# EAGLE library part POLOLU_A-STAR-MICRO (library will)
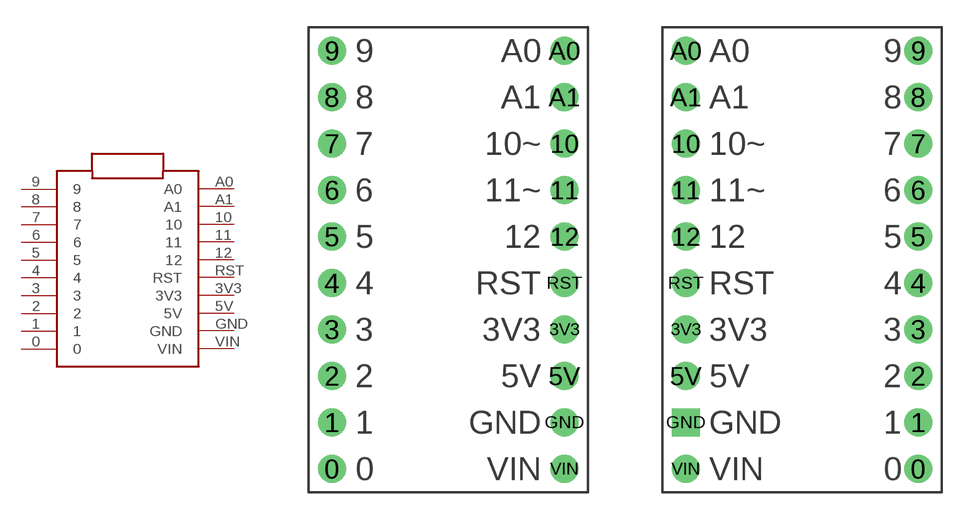
[diagram p1: symbol with the pads of POLOLU_A-STAR-MICRO; footprints POLOLU_A-STAR-MICRO, POLOLU_A-STAR-MICRO_MIRROR]

Designator prefix -

## POLOLU_A-STAR-MICRO  [POLOLU_A-STAR-MICRO]
0  0
1  1
2  2
3  3
3V3  3V3
4  4
5  5
5V  5V
6  6
7  7
8  8
9  9
10  10
11  11
12  12
A0  A0
A1  A1
GND  GND
RST  RST
VIN  VIN

## POLOLU_A-STAR-MICROMIRROR  [POLOLU_A-STAR-MICRO_MIRROR]
Pads as for POLOLU_A-STAR-MICRO

## Footprint POLOLU_A-STAR-MICRO (pad centres in mm)
drill 0.8 pad 1.524: 0 -6.35,-12.7; 1 -6.35,-10.16; 2 -6.35,-7.62; 3 -6.35,-5.08; 3V3 6.35,-5.08; 4 -6.35,-2.54; 5 -6.35,0; 5V 6.35,-7.62; 6 -6.35,2.54; 7 -6.35,5.08; 8 -6.35,7.62; 9 -6.35,10.16; 10 6.35,5.08; 11 6.35,2.54; 12 6.35,0; A0 6.35,10.16; A1 6.35,7.62; GND 6.35,-10.16; RST 6.35,-2.54; VIN 6.35,-12.7

## Footprint POLOLU_A-STAR-MICRO_MIRROR (pad centres in mm)
drill 0.9 pad 1.524: 0 6.35,-11.43; 1 6.35,-8.89; 2 6.35,-6.35; 3 6.35,-3.81; 3V3 -6.35,-3.81; 4 6.35,-1.27; 5 6.35,1.27; 5V -6.35,-6.35; 6 6.35,3.81; 7 6.35,6.35; 8 6.35,8.89; 9 6.35,11.43; 10 -6.35,6.35; 11 -6.35,3.81; 12 -6.35,1.27; A0 -6.35,11.43; A1 -6.35,8.89; RST -6.35,-1.27; VIN -6.35,-11.43
drill 0.9 pad 1.524 square: GND -6.35,-8.89